# EAGLE library part 691323100006 (library Terminal_Blocks_Connectors_rev15e)
WR-TBL Serie 3231 - 3.5mm Vertical PCB Header with Flanges , 6 Pins=>Code : Con_TBL_Pluggable_3.50_PCB_V_691323100006 <http://katalog.we-online.de/media/images/eican/Con_TBL_Pluggable_3.50_PCB_V_6913231000xx_pf2.jpg> Details see: http://katalog.we-online.de/en/em/691_323_100_0xx Created 2014-06-18, Karrer Zheng 2014 (C) Würth Elektronik
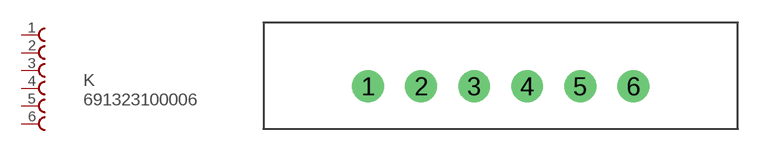
[diagram p13: symbol with the pads of 691323100006; footprint 691323100006]

Designator prefix K

## 691323100006  [691323100006]
1  1  pas
2  2  pas
3  3  pas
4  4  pas
5  5  pas
6  6  pas

## Footprint 691323100006 (pad centres in mm)
WR-TBL Serie 3231 - 3.5mm Vertical PCB Header with Flanges , 6 Pins
drill 1.4: 1 -10.5,0; 2 -7,0; 3 -3.5,0; 4 0,0; 5 3.5,0; 6 7,0